# Altium schematic symbol library LED_SYMBOLS.SchLib: 58 symbols (part 1 of 2)
Pins are listed as number, name and electrical type; pins without a type are passive.

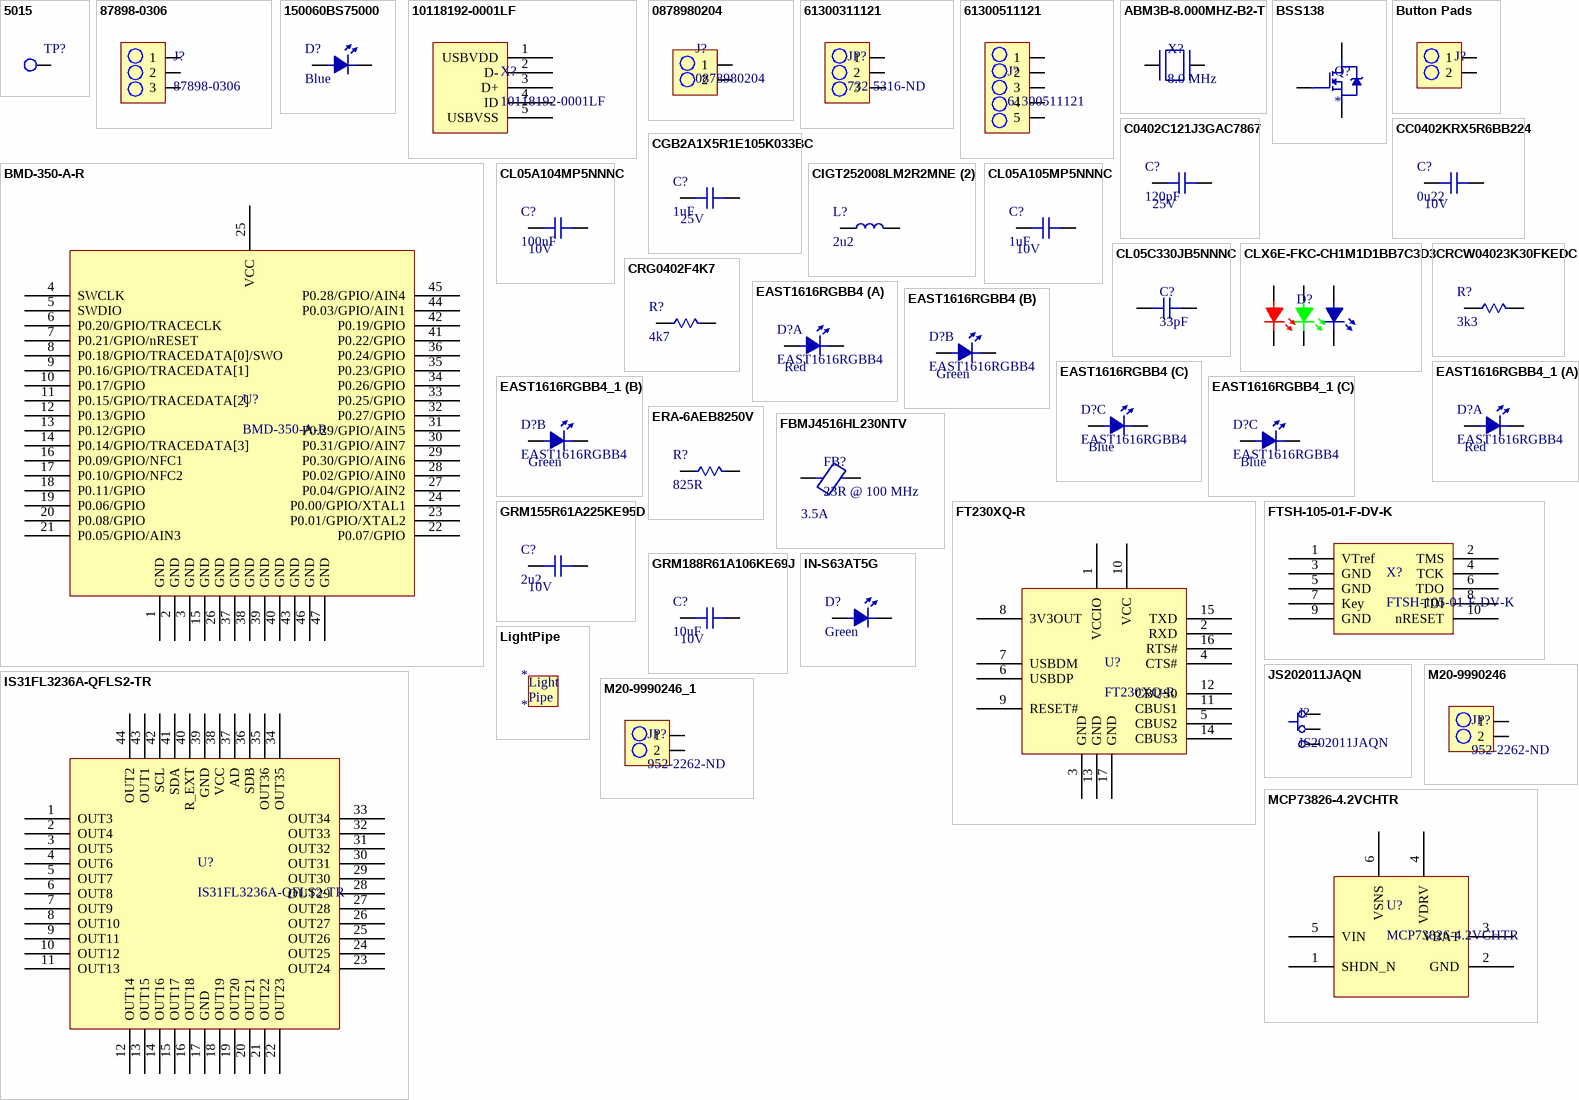
[diagram p0: symbols 5015 to MCP73826-4.2VCHTR]

## 5015
designator TP?  (value not drawn)
TEST POINT, PCB, SMT; Manufacturer: Keystone Electronics; Number of Ports: 1; Supplier 1: Digi-Key; Manufacturer Part Number: 5015; Stock 1: 1937775; Pricing 1: 1=0.44, 10=0.421, 25=0.3604, 50=0.3064, 100=0.2944, 250=0.2644, 500=0.2524 (USD); Mount: Surface Mount; Colour: White; Contact Material: Bronze; Contact Plating: Tin,Silver,Lead; Material: Bronze,Silver; Package Quantity: 1; Packaging: Tape and Reel; Termination: Solder; Orientation: Straight; Length: 2.66mm; Height: 0.06inch; Thickness: 0.01inch; Depth: 1.01mm; REACH SVHC: No SVHC; Lead Free: Lead Free; ComponentLink1URL: https://datasheet.ciiva.com/2917/5015-2917616.pdf; ComponentLink1Description: https://datasheet.ciiva.com/2917/5015-2917616.pdf; ComponentLink2URL: https://datasheet.ciiva.com/2917/5015-2917617.pdf; ComponentLink2Description: https://datasheet.ciiva.com/2917/5015-2917617.pdf; ComponentLink3URL: https://datasheet.ciiva.com/1123/5015-1123862.pdf; ComponentLink3Description: https://datasheet.ciiva.com/1123/5015-1123862.pdf; ComponentLink4URL: https://datasheet.ciiva.com/16883/70182998-16883734.pdf; ComponentLink4Description: https://datasheet.ciiva.com/16883/70182998-16883734.pdf; Supplier Part Number 1: 36-5015CT-ND
footprint TP_HOOK
pins: 1

## 87898-0306
designator J?
CONN_3PIN_SMD HDR 3 POS 2.54mm Solder ST SMD SL™ Frame; Manufacturer: Molex; Description: Conn Unshrouded Header HDR 3 POS 2.54mm Solder ST SMD SL™ Frame; Number of Positions: 3; Gender: Male; Current Rating: 3A; Voltage Rating: 250V; Glow Wire Compliant: Non-compliant; Supplier 1: Digi-Key; Manufacturer Part Number: 87898-0306; Stock 1: 8330; Pricing 1: 1=0.54, 10=0.502, 100=0.3846, 500=0.3344, 1000=0.27588, 5000=0.24244, 10000=0.22572 (USD); Mount: Surface Mount; Contact Plating: Tin; Contact Material: Copper Alloy; Housing Material: Nylon; Material: Copper Alloy; Min Operating Temperature: -55°C; Max Operating Temperature: 105°C; Number of Rows: 1; Packaging: Tray; Package Quantity: 7200; Number of Contacts: 3; Termination: Solder; Orientation: Straight; Number of Circuits: 3; Pitch: 2.54mm; REACH SVHC: No SVHC; Halogen Free: Low Halogen; ELV: Compliant; Flammability Rating: UL94 V-0; ComponentLink1URL: http://www.mouser.com/ds/2/276/0878980306_PCB_HEADERS-176716.pdf?src-supplier=Mouser; ComponentLink1Description: http://www.mouser.com/ds/2/276/0878980306_PCB_HEADERS-176716.pdf?src-supplier=Mouser; Supplier Part Number 1: WM9810-ND
footprint 3PIN_SMD
pins: 1, 2, 3

## 150060BS75000
designator D?, comment Blue
LED BLUE CLEAR 0603 SMD 3.2V 145MCD, 470NM; Manufacturer: Wurth Electronics; Manufacturer Part Number: 150060BS75000; Forward Current: 30mA; Viewing Angle: 140°; Lens Style: Clear,Rectangular; Test Current: 20mA; Supplier 1: Digi-Key; Stock 1: 59667; Pricing 1: 1=0.15, 50=0.141, 100=0.121, 500=0.104 (USD); Mount: Surface Mount; Case/Package: 0603; Color: Blue; Case Code (Metric): 1608; Case Code (Imperial): 0603; Min Operating Temperature: -40°C; Max Operating Temperature: 85°C; Luminous Intensity: 145mcd; Forward Voltage: 3.2V; Wavelength: 470nm; Package Quantity: 4000; Packaging: Cut Tape; Dominant Wavelength: 470nm; Length: 1.6mm; Height: 0.7mm; Width: 0.8mm; REACH SVHC: Unknown; ComponentLink1URL: https://www.distrelec.biz/Web/Downloads/_t/ds/150060BS75000_eng_tds.pdf?mime=application%2Fpdf; ComponentLink1Description: https://www.distrelec.biz/Web/Downloads/_t/ds/150060BS75000_eng_tds.pdf?mime=application%2Fpdf; ComponentLink2URL: https://katalog.we-online.de/led/datasheet/150060BS75000.pdf; ComponentLink2Description: https://katalog.we-online.de/led/datasheet/150060BS75000.pdf; ComponentLink3URL: http://www.farnell.com/datasheets/1911343.pdf; ComponentLink3Description: http://www.farnell.com/datasheets/1911343.pdf; ComponentLink4URL: http://www.produktinfo.conrad.com/datenblaetter/750000-774999/759426-da-01-en-CHIPLED_0603_W_KL_BLAU_150060BS75000.pdf; ComponentLink4Description: http://www.produktinfo.conrad.com/datenblaetter/750000-774999/759426-da-01-en-CHIPLED_0603_W_KL_BLAU_150060BS75000.pdf; Supplier Part Number 1: 732-4966-1-ND
footprint LED_0603
pins: 1, 2

## 10118192-0001LF
designator X?
CONN_USB - micro B USB 2.0 Receptacle Connector 5 Position Surface Mount, Right Angle, Horizontal; Manufacturer: Amphenol FCI; Current Rating: 1.8A; Connector Type: USB,Receptacle; Number of Contacts: 5; Insulation Resistance: 1GR; Number of Ports: 1; Max Voltage Rating (AC): 100V; USB Standard: USB 2.0; Pitch: 0.65mm; Supplier 1: Digi-Key; Manufacturer Part Number: 10118192-0001LF; Stock 1: 197826; Pricing 1: 1=0.46, 10=0.437, 25=0.3744, 50=0.318, 100=0.3056, 250=0.2744, 500=0.262 (USD); Mount: Surface Mount,Horizontal; Contact Material: Copper Alloy; Contact Plating: Nickel,Gold; Number of Terminals: 5; Housing Material: Polymer; Colour: Black; Min Operating Temperature: -55°C; Max Operating Temperature: 85°C; Packaging: Tape and Reel; Package Quantity: 1400; Gender: Receptacle; Termination: Solder; Voltage Rating: 100V; Orientation: Right Angle; Length: 7.86mm; Depth: 5.57mm; Radiation Hardening: No; REACH SVHC: No SVHC; Lead Free: Lead Free; Flammability Rating: UL94 V-0; ComponentLink1URL: https://datasheet.ciiva.com/26853/getdatasheetpartid-418041-26853891.pdf; ComponentLink1Description: https://datasheet.ciiva.com/26853/getdatasheetpartid-418041-26853891.pdf; ComponentLink2URL: https://datasheet.ciiva.com/851/10118192-851112.pdf; ComponentLink2Description: https://datasheet.ciiva.com/851/10118192-851112.pdf; ComponentLink3URL: https://datasheet.ciiva.com/4598/10118192ac-197249-4598796.pdf; ComponentLink3Description: https://datasheet.ciiva.com/4598/10118192ac-197249-4598796.pdf; Supplier Part Number 1: 609-4613-1-ND
footprint USB_MICRO
footprint LQFP-48 (TSQFP, 48-Leads, Body 7.00x7.00mm, Pitch 0.50mm, IPC Medium Density)
pins: 1 USBVDD, 2 D-, 3 D+, 4 ID, 5 USBVSS

## 0878980204
designator J?
CONN_2PIN_SMD HDR 2 POS 2.54mm Solder ST SMD SL™ Tray; Manufacturer: Molex; Description: Conn Unshrouded Header HDR 2 POS 2.54mm Solder ST SMD SL™ Tray; Number of Positions: 2; Gender: Male; Connector Type: Male Pin; Supplier 1: Digi-Key; Manufacturer Part Number: 0878980204; Stock 1: 13417; Pricing 1: 1=0.55, 10=0.517, 100=0.3965, 500=0.3448, 1000=0.28446, 5000=0.24998, 10000=0.23274 (USD); Mount: Surface Mount; Contact Plating: Gold; Contact Material: Copper Alloy; Housing Material: Nylon; Color: Black; Housing Color: Black; Min Operating Temperature: -55°C; Max Operating Temperature: 105°C; Number of Rows: 1; Packaging: Tray; Termination: Solder; Number of Contacts: 2; Orientation: Straight; Package Quantity: 7200; Length: 5.08mm; Pitch: 2.54mm; Contact Mating Length: 0.23inch; Depth: 2.49mm; Radiation Hardening: No; ComponentLink1URL: https://media.digikey.com/pdf/Data%20Sheets/Molex%20PDFs/PackSpec_PK-89990-489_-2%2054mm%20PitchHeader.pdf?src-supplier=Digi-Key; ComponentLink1Description: https://media.digikey.com/pdf/Data%20Sheets/Molex%20PDFs/PackSpec_PK-89990-489_-2%2054mm%20PitchHeader.pdf?src-supplier=Digi-Key; ComponentLink2URL: https://media.digikey.com/pdf/Data%20Sheets/Molex%20PDFs/PackSpec_PK-89990-489_-2%2054mm%20PitchHeader.pdf?src-supplier=Arrow; ComponentLink2Description: https://media.digikey.com/pdf/Data%20Sheets/Molex%20PDFs/PackSpec_PK-89990-489_-2%2054mm%20PitchHeader.pdf?src-supplier=Arrow; Supplier Part Number 1: WM9852-ND
footprint 2PIN_SMD
pins: 1, 2

## 61300311121
designator JP?, comment 732-5316-ND
CONN_HeaderPins3pos WURTH ELEKTRONIK Board-To-Board Connector, Vertical, WR-PHD Series, Through Hole, Header, 3 Contacts, 2.54 mm; Manufacturer: Wurth Electronics; Manufacturer Part Number: 61300311121; Number of Positions: 3; Gender: Male; Connector Type: Male Pin; Pitch: 0.1inch; Supplier 1: Digi-Key; Stock 1: 57026; Pricing 1: 1=0.13, 10=0.106, 25=0.088, 50=0.074, 100=0.067, 1000=0.061 (USD); Mount: Through Hole; Case/Package: 100; Contact Plating: Gold; Contact Material: Copper; Colour: Black; Number of Rows: 1; Packaging: Bulk; Termination: Solder; Number of Contacts: 3; Contact Mating Length: 0.236inch; REACH SVHC: Unknown; Lead Free: Lead Free; ComponentLink1URL: http://www.farnell.com/cad/1737268.pdf; ComponentLink1Description: http://www.farnell.com/cad/1737268.pdf; Supplier Part Number 1: 732-5316-ND
footprint 3PIN_HEADER
pins: 1, 2, 3

## 61300511121
designator J?
CONN_HeaderPins5pos WURTH ELEKTRONIK         61300511121            Board-To-Board Connector, Vertical, WR-PHD Series, Through Hole, Header, 5 Contacts, 2.54 mm; Manufacturer: Wurth Electronics; Number of Positions: 5; Gender: Male; Connector Type: Male Pin; Pitch: 0.1inch; Supplier 1: Digi-Key; Manufacturer Part Number: 61300511121; Stock 1: 20896; Pricing 1: 1=0.25, 10=0.209, 25=0.174, 50=0.145, 100=0.132, 1000=0.12 (USD); Mount: Through Hole; Contact Plating: Gold; Contact Material: Copper; Color: Black; Number of Rows: 1; Packaging: Bulk; Termination: Solder; Number of Contacts: 5; Contact Mating Length: 0.236inch; REACH SVHC: Unknown; Lead Free: Lead Free; Supplier Part Number 1: 732-5318-ND
footprint 5PIN_HEADER
pins: 1, 2, 3, 4, 5

## ABM3B-8.000MHZ-B2-T
designator X?, comment 8.0 MHz
CRYSTAL 8.0000MHZ 18PF SMD 20ppm; Manufacturer: Abracon; Manufacturer Part Number: ABM3B-8.000MHZ-B2-T; Frequency: 8MHz; ESR (Equivalent Series Resistance): 200R; Frequency Stability: 50ppm; Supplier 1: Digi-Key; Stock 1: 185353; Pricing 1: 1=0.51, 10=0.426, 50=0.3836, 100=0.341, 500=0.324 (USD); Mount: Surface Mount; Case/Package: CSMD; Number of Pins: 4; Min Operating Temperature: -20°C; Max Operating Temperature: 70°C; Load Capacitance: 18pF; Packaging: Tape and Reel; Frequency Tolerance: 20ppm; Package Quantity: 1000; Tolerance: 20ppm; Termination: SMD/SMT; Composition: Ceramic; Series Resistance: 200R; Length: 5mm; Height: 0.043inch; Width: 0.126inch; Depth: 3.2mm; REACH SVHC: Unknown; Lead Free: Lead Free; ComponentLink1URL: https://abracon.com/Resonators/abm3b.pdf?src-supplier=Digi-Key; ComponentLink1Description: https://abracon.com/Resonators/abm3b.pdf?src-supplier=Digi-Key; ComponentLink2URL: http://www.abracon.com/Resonators/abm3b.pdf?src-supplier=Avnet; ComponentLink2Description: http://www.abracon.com/Resonators/abm3b.pdf?src-supplier=Avnet; ComponentLink3URL: http://www.abracon.com/Resonators/abm3b.pdf?src-supplier=Future+Electronics; ComponentLink3Description: http://www.abracon.com/Resonators/abm3b.pdf?src-supplier=Future+Electronics; ComponentLink4URL: https://www.verical.com/server-webapp/html/getDatasheet?partID=723822&src-supplier=Verical; ComponentLink4Description: https://www.verical.com/server-webapp/html/getDatasheet?partID=723822&src-supplier=Verical; Supplier Part Number 1: 535-9720-1-ND
footprint XTAL
pins: 1, 3

## BMD-350-A-R
designator U?
IC BT MODULE BMD-350 BASED ON NRF528232 ARM CORTEX M4; Manufacturer: Rigado; Interface: I2C,SPI,UART; Frequency: 2.4GHz; Data Rate: 2Mbps; Sensitivity: -96dBm; Memory Size: 64KB; Current - Receiving: 11.7mA; Current - Transmitting: 16.6mA; Supplier 1: Digi-Key; Manufacturer Part Number: BMD-350-A-R; Stock 1: 19867; Pricing 1: 1=11.27, 10=10.194, 25=9.3896, 100=8.5848, 250=8.0482, 500=7.5117 (USD); Mount: Surface Mount; Case/Package: Module; Min Operating Temperature: -40°C; Max Operating Temperature: 85°C; Packaging: Cut Tape; Supplier Part Number 1: 1604-1012-1-ND
footprint BMD-350
pins: 1 GND, 2 GND, 3 GND, 4 SWCLK, 5 SWDIO, 6 P0.20/GPIO/TRACECLK, 7 P0.21/GPIO/nRESET, 8 P0.18/GPIO/TRACEDATA[0]/SWO, 9 P0.16/GPIO/TRACEDATA[1], 10 P0.17/GPIO, 11 P0.15/GPIO/TRACEDATA[2], 12 P0.13/GPIO, 13 P0.12/GPIO, 14 P0.14/GPIO/TRACEDATA[3], 15 GND, 16 P0.09/GPIO/NFC1, 17 P0.10/GPIO/NFC2, 18 P0.11/GPIO, 19 P0.06/GPIO, 20 P0.08/GPIO, 21 P0.05/GPIO/AIN3, 22 P0.07/GPIO, 23 P0.01/GPIO/XTAL2, 24 P0.00/GPIO/XTAL1, 25 VCC, 26 GND, 27 P0.04/GPIO/AIN2, 28 P0.02/GPIO/AIN0, 29 P0.30/GPIO/AIN6, 30 P0.31/GPIO/AIN7, 31 P0.29/GPIO/AIN5, 32 P0.27/GPIO, 33 P0.25/GPIO, 34 P0.26/GPIO, 35 P0.23/GPIO, 36 P0.24/GPIO, 37 GND, 38 GND, 39 GND, 40 GND, 41 P0.22/GPIO, 42 P0.19/GPIO, 43 GND, 44 P0.03/GPIO/AIN1, 45 P0.28/GPIO/AIN4, 46 GND, 47 GND

## BSS138
designator Q?
MOSFET N-CH 50V 0.22A 3-Pin SOT-23 T/R; Manufacturer: ON Semiconductor / Fairchild; Manufacturer Part Number: BSS138; Rds On Max: 3.5R; Input Capacitance: 27pF; Nominal Vgs: 1.3V; Number of Elements: 1; Max Power Dissipation: 360mW; Rise Time: 9ns; Continuous Drain Current (ID): 220mA; Turn-Off Delay Time: 20ns; Turn-On Delay Time: 2.5ns; Element Configuration: Single; Gate to Source Voltage (Vgs): 20V; On-State Resistance: 6R; Supplier 1: Digi-Key; Stock 1: 814515; Pricing 1: 1=0.26, 10=0.214, 25=0.1792, 100=0.0876, 500=0.07304, 1000=0.05075 (USD); Mount: Surface Mount; Case/Package: SOT-23; Number of Pins: 3; Weight: 0.03g; Contact Plating: Tin,Matte; Min Operating Temperature: -55°C; Max Operating Temperature: 150°C; Packaging: Tape and Reel; Package Quantity: 1; Dual Supply Voltage: 50V; Drain to Source Voltage (Vdss): 50V; Drain to Source Breakdown Voltage: 50V; Fall Time: 9ns; Drain to Source Resistance: 3.5R; Power Dissipation: 360mW; Threshold Voltage: 1.3V; Termination: SMD/SMT; Voltage Rating (DC): 50V; Current Rating: 220mA; Length: 2.92mm; Height: 0.93mm; Width: 1.3mm; Radiation Hardening: No; REACH SVHC: No SVHC; Lead Free: Lead Free; ComponentLink1URL: https://www.fairchildsemi.com/package-drawings/MA/MA03B.pdf?src-supplier=Digi-Key; ComponentLink1Description: https://www.fairchildsemi.com/package-drawings/MA/MA03B.pdf?src-supplier=Digi-Key; ComponentLink2URL: http://www.farnell.com/datasheets/2304519.pdf?src-supplier=Element14; ComponentLink2Description: http://www.farnell.com/datasheets/2304519.pdf?src-supplier=Element14; ComponentLink3URL: http://www.farnell.com/datasheets/2304519.pdf?src-supplier=Newark; ComponentLink3Description: http://www.farnell.com/datasheets/2304519.pdf?src-supplier=Newark; ComponentLink4URL: https://www.fairchildsemi.com/datasheets/BS/BSS138.pdf?src-supplier=Avnet; ComponentLink4Description: https://www.fairchildsemi.com/datasheets/BS/BSS138.pdf?src-supplier=Avnet; ComponentLink5URL: http://www.fairchildsemi.com/ds/BS/BSS138.pdf?src-supplier=Future+Electronics; ComponentLink5Description: http://www.fairchildsemi.com/ds/BS/BSS138.pdf?src-supplier=Future+Electronics; ComponentLink6URL: http://www.jameco.com/Jameco/Products/ProdDS/784896.pdf?src-supplier=Jameco; ComponentLink6Description: http://www.jameco.com/Jameco/Products/ProdDS/784896.pdf?src-supplier=Jameco; ComponentLink7URL: http://www.fairchildsemi.com/ds/BS/BSS138.pdf?src-supplier=Avnet+Europe; ComponentLink7Description: http://www.fairchildsemi.com/ds/BS/BSS138.pdf?src-supplier=Avnet+Europe; Supplier Part Number 1: BSS138CT-ND
footprint SOT23-3_PMOS (SOT23, 3-Leads, Body 2.90x2.90mm, Pitch 0.95mm, IPC Medium Density)
pins: 1, 2, 3

## Button Pads
designator J?  (value not drawn)
footprint 2PIN_HEADER - BUTTON
pins: 1, 2

## C0402C121J3GAC7867
designator C?, comment 120pF  Voltage Rating: 25V
CAP MLCC 120pF 25V 0402; Manufacturer: KEMET; Manufacturer Part Number: C0402C121J3GAC7867; Tolerance: 5%; Supplier 1: Digi-Key; Stock 1: 30252; Pricing 1: 1=0.1, 10=0.039, 100=0.0175, 500=0.0125, 1000=0.0098, 2500=0.0089, 5000=0.0082 (USD); Mount: Surface Mount; Case/Package: 0402; Case Code (Imperial): 0402; Case Code (Metric): 1005; Min Operating Temperature: -55°C; Max Operating Temperature: 125°C; Packaging: Tape and Reel; Capacitance: 120pF; Supplier Part Number 1: 399-14880-1-ND
footprint C0402 (Chip Capacitor, 2-Leads, Body 1.00x0.50mm, IPC Medium Density)
pins: 1, 2

## CC0402KRX5R6BB224
designator C?, comment 0u22  Voltage Rating (DC): 10V
CAP CER 0.22UF 10V X5R 0402; Manufacturer: Yageo; Manufacturer Part Number: CC0402KRX5R6BB224; Dielectric Material: Ceramic; Capacitance: 220nF; Tolerance: 10%; Supplier 1: Digi-Key; Stock 1: 449500; Pricing 1: 1=0.1, 10=0.063, 100=0.0281, 500=0.0201, 1000=0.0158, 2500=0.0143, 5000=0.0132 (USD); Mount: Surface Mount; Case/Package: 0402; Weight: 2.3E-05oz; Case Code (Metric): 1005; Case Code (Imperial): 0402; Min Operating Temperature: -55°C; Max Operating Temperature: 85°C; Package Quantity: 10000; Voltage Rating: 10V; Packaging: Tape and Reel; Dielectric: X5R; Termination: SMD/SMT; Composition: Ceramic; Length: 1mm; Height: 0.5mm; Width: 0.02inch; Thickness: 0.022inch; Depth: 0.5mm; Radiation Hardening: No; REACH SVHC: Unknown; Lead Free: Lead Free; Halogen Free: Halogen Free; ComponentLink1URL: http://www.yageo.com/documents/recent/UPY-GPHC_X5R_4V-to-50V_25.pdf?src-supplier=Digi-Key; ComponentLink1Description: http://www.yageo.com/documents/recent/UPY-GPHC_X5R_4V-to-50V_25.pdf?src-supplier=Digi-Key; ComponentLink2URL: http://www.farnell.com/datasheets/1525783.pdf?src-supplier=Element14; ComponentLink2Description: http://www.farnell.com/datasheets/1525783.pdf?src-supplier=Element14; ComponentLink3URL: http://www.farnell.com/datasheets/1359354.pdf?src-supplier=Element14; ComponentLink3Description: http://www.farnell.com/datasheets/1359354.pdf?src-supplier=Element14; ComponentLink4URL: http://www.yageo.com/documents/recent/UPY-GPHC_X5R_4V-to-50V_12.pdf?src-supplier=Avnet+Europe; ComponentLink4Description: http://www.yageo.com/documents/recent/UPY-GPHC_X5R_4V-to-50V_12.pdf?src-supplier=Avnet+Europe; Supplier Part Number 1: 311-1421-1-ND
footprint C0402 (Chip Capacitor, 2-Leads, Body 1.00x0.50mm, IPC Medium Density)
pins: 1, 2

## CGB2A1X5R1E105K033BC
designator C?, comment 1uF  Voltage Rating: 25V
CAP CER 1UF 25V X5R 0402; Manufacturer: TDK; Manufacturer Part Number: CGB2A1X5R1E105K033BC; Tolerance: 10%; Supplier 1: Digi-Key; Stock 1: 2098521; Pricing 1: 1=0.24, 10=0.166, 100=0.0839, 500=0.0574, 1000=0.0508, 2500=0.0486, 5000=0.0442 (USD); Mount: Surface Mount; Case/Package: 0402; Case Code (Metric): 1005; Case Code (Imperial): 0402; Min Operating Temperature: -55°C; Max Operating Temperature: 85°C; Package Quantity: 1; Packaging: Cut Tape; Capacitance: 1uF; Dielectric: X5R; Voltage Rating (DC): 25V; Length: 0.039inch; Width: 0.02inch; Thickness: 0.013inch; REACH SVHC: No SVHC; Lead Free: Lead Free; Supplier Part Number 1: 445-13185-1-ND
footprint C0402 (Chip Capacitor, 2-Leads, Body 1.00x0.50mm, IPC Medium Density)
pins: 1, 2

## CIGT252008LM2R2MNE (2)
designator L?, comment 2u2
IND 2.2uH 2.1A Saturation Current; Manufacturer: Samsung; Manufacturer Part Number: CIGT252008LM2R2MNE; Core Material: Metal,Composite; Tolerance: 20%; Current Rating: 2A; Shielding: Unshielded; DC Resistance (DCR): 97mR; Test Frequency: 1MHz; Supplier 1: Digi-Key; Stock 1: 8715; Pricing 1: 1=0.22, 10=0.197, 100=0.1314, 500=0.1095, 1000=0.092 (USD); Mount: Surface Mount; Case/Package: 1008; Case Code (Imperial): 1008; Case Code (Metric): 2520; Min Operating Temperature: -40°C; Max Operating Temperature: 125°C; Composition: Thin Film; Packaging: Cut Tape; Inductance: 2.2uH; Saturation Current: 2.1A; Supplier Part Number 1: 1276-6925-1-ND
footprint INDUCTOR (Chip Inductor, 2-Leads, Body 2.50x2.00mm, IPC Medium Density)
pins: 1, 2

## CL05A104MP5NNNC
designator C?, comment 100nF  Voltage Rating: 10V
CAP MLCC 0.1uF 10V X5R 0402 20% SMD 0402 85C Paper T/R; Manufacturer: Samsung; Manufacturer Part Number: CL05A104MP5NNNC; Supplier 1: Digi-Key; Stock 1: 100000; Pricing 1: 1=0.1, 10=0.024, 100=0.0106, 500=0.0076, 1000=0.006, 2500=0.0054, 5000=0.005 (USD); Mount: Surface Mount; Case/Package: 0402; Case Code (Metric): 1005; Case Code (Imperial): 0402; Min Operating Temperature: -55°C; Max Operating Temperature: 85°C; Packaging: Tape and Reel; Capacitance: 100nF; Tolerance: 20%; Dielectric: X5R; Voltage Rating (DC): 10V; Length: 1mm; Height: 0.5mm; Width: 0.02inch; Thickness: 0.022inch; Depth: 0.5mm; Radiation Hardening: No; Lead Free: Lead Free; ComponentLink1URL: https://media.digikey.com/pdf/Data%20Sheets/Samsung%20PDFs/CL_Series_MLCC_ds.pdf; ComponentLink1Description: https://media.digikey.com/pdf/Data%20Sheets/Samsung%20PDFs/CL_Series_MLCC_ds.pdf; Supplier Part Number 1: 1276-1443-1-ND
footprint C0402 (Chip Capacitor, 2-Leads, Body 1.00x0.50mm, IPC Medium Density)
pins: 1, 2

## CL05A105MP5NNNC
designator C?, comment 1uF  Voltage Rating: 10V
CAP MLCC 1uF 10V 0402; Manufacturer: Samsung; Manufacturer Part Number: CL05A105MP5NNNC; Tolerance: 20%; Dielectric: X5R; Supplier 1: Digi-Key; Stock 1: 3892098; Pricing 1: 1=0.1, 10=0.038, 100=0.0169, 500=0.0121, 1000=0.0095, 2500=0.0086, 5000=0.008 (USD); Mount: Surface Mount; Case/Package: 0402; Case Code (Metric): 1005; Case Code (Imperial): 0402; Min Operating Temperature: -55°C; Max Operating Temperature: 85°C; Package Quantity: 1; Packaging: Tape and Reel; Capacitance: 1uF; Voltage Rating (DC): 10V; Length: 1mm; Height: 0.5mm; Width: 0.02inch; Thickness: 0.022inch; Depth: 0.5mm; Radiation Hardening: No; Lead Free: Lead Free; ComponentLink1URL: http://www.samsungsem.com/kr/support/product-search/mlcc/CL05A105MP5NNNC.jsp?src-supplier=Digi-Key; ComponentLink1Description: http://www.samsungsem.com/kr/support/product-search/mlcc/CL05A105MP5NNNC.jsp?src-supplier=Digi-Key; Supplier Part Number 1: 1276-1448-1-ND
footprint C0402 (Chip Capacitor, 2-Leads, Body 1.00x0.50mm, IPC Medium Density)
pins: 1, 2

## CL05C330JB5NNNC
designator C?, comment 33pF
Cap Ceramic 33pF 50V C0G 5% SMD 0402 125C T/R; Manufacturer: Samsung; Manufacturer Part Number: CL05C330JB5NNNC; Temperature Coefficient: 300ppm/°C; Supplier 1: Digi-Key; Stock 1: 11666415; Pricing 1: 1=0.1, 10=0.023, 100=0.0104, 500=0.0074, 1000=0.0058, 2500=0.0053, 5000=0.0049 (USD); Mount: Surface Mount; Case/Package: 0402; Case Code (Metric): 1005; Case Code (Imperial): 0402; Material: Ceramic; Contact Plating: Tin; Min Operating Temperature: -55°C; Max Operating Temperature: 125°C; Package Quantity: 1; Packaging: Tape and Reel; Capacitance: 33pF; Tolerance: 5%; Voltage Rating: 50V; Dielectric: C0G; Voltage: 50V; Voltage Rating (DC): 50V; Length: 1mm; Height: 0.5mm; Width: 0.02inch; Thickness: 0.022inch; Depth: 0.5mm; Radiation Hardening: No; Lead Free: Lead Free; ComponentLink1URL: https://www.verical.com/server-webapp/html/getDatasheet?partID=355282&src-supplier=Verical; ComponentLink1Description: https://www.verical.com/server-webapp/html/getDatasheet?partID=355282&src-supplier=Verical; ComponentLink2URL: https://produktinfo.conrad.com/datenblaetter/450000-474999/458594-da-01-en-VS_KONDENSATOR_0402.pdf?src-supplier=Conrad; ComponentLink2Description: https://produktinfo.conrad.com/datenblaetter/450000-474999/458594-da-01-en-VS_KONDENSATOR_0402.pdf?src-supplier=Conrad; Supplier Part Number 1: 1276-1272-1-ND
footprint C0402 (Chip Capacitor, 2-Leads, Body 1.00x0.50mm, IPC Medium Density)
pins: 1, 2

## CLX6E-FKC-CH1M1D1BB7C3D3
designator D?  (value not drawn)
LED RGB CLEAR 4SMD; Manufacturer: Cree; Manufacturer Part Number: CLX6E-FKC-CH1M1D1BB7C3D3; Color: Blue,Green,Red; Lens Color: Colorless; Luminous Intensity: 84mcd; Test Current: 10mA; Dominant Wavelength: 470nm; Forward Voltage: 3V; Lens Style: Flat,Square; Supplier 1: Digi-Key; Stock 1: 40797; Pricing 1: 1=0.19, 10=0.178, 100=0.165, 1000=0.14761 (USD); Mount: Surface Mount; Case/Package: SMD/SMT; Packaging: Tape and Reel; Lens Transparency: Clear; Length: 2mm; Height: 1mm; Width: 2mm; Supplier 2: Digi-Key; Stock 2: 1298; Pricing 2: 1=0.3, 10=0.282, 100=0.2606, 1000=0.23308 (USD); Supplier Part Number 1: CLX6E-FKC-CH1M1D1BB7C3D3CT-ND; ComponentLink1Description: Datasheet; ComponentLink1URL: https://www.cree.com/led-components/media/documents/ds-CLX6E-FKC-1359.pdf; ComponentLink2Description: Footprint (Page 12); ComponentLink2URL: https://www.cree.com/led-components/media/documents/sh-HB.pdf
footprint LED_CLX6E
pins: 1, 2, 3, 4, 5, 6

## CRCW04023K30FKEDC
designator R?, comment 3k3
RES SMD 3.3K OHM 1% 1/16W 0402; Manufacturer: Vishay; Manufacturer Part Number: CRCW04023K30FKEDC; Resistance: 3.3kR; Max Power Dissipation: 63mW; Temperature Coefficient: 100ppm/°C; Supplier 1: Digi-Key; Stock 1: 19004; Pricing 1: 1=0.1, 10=0.032, 100=0.013, 1000=0.00583, 2500=0.00506, 5000=0.00418 (USD); Case/Package: 0402; Case Code (Imperial): 0402; Case Code (Metric): 1005; Min Operating Temperature: -55°C; Max Operating Temperature: 155°C; Composition: Thick Film; Packaging: Cut Tape; Tolerance: 1%; Number of Terminations: 2; ComponentLink1URL: http://www.vishay.com/docs/28773/crcwce3.pdf?src-supplier=Digi-Key; ComponentLink1Description: http://www.vishay.com/docs/28773/crcwce3.pdf?src-supplier=Digi-Key; Supplier Part Number 1: 541-4080-6-ND
footprint R0402 (Chip Resistor, 2-Leads, Body 1.00x0.50mm, IPC Medium Density)
pins: 1, 2

## CRG0402F4K7
designator R?, comment 4k7
RES SMD 4.7K 0402 4.7K Ohm 1% 1/16W ±100ppm/°C Molded SMD SMD; Manufacturer: TE Connectivity; Manufacturer Part Number: CRG0402F4K7; Supplier 1: Newark; Stock 1: 0; Pricing 1: 10000=0.006, 20000=0.003, 200000=0.003, 400000=0.003, 1000000=0.003, 1=0.004, 20000=0.002, 200000=0.002, 400000=0.002, 1000000=0.002 (CAD); Supplier Part Number 1: 30AC5442
footprint R0402 (Chip Resistor, 2-Leads, Body 1.00x0.50mm, IPC Medium Density)
pins: 1, 2

## EAST1616RGBB4
designator D?
LED TRICOLOR RED GREEN BLUE; Manufacturer: Everlight; Supplier 1: Digi-Key; Manufacturer Part Number: EAST1616RGBB4; Stock 1: 0; Supplier Part Number 1: 1080-1552-2-ND
footprint LED_TRICOLOR
part A pins: 1, 4
part B pins: 2, 4
part C pins: 3, 4
part A text: Red
part B text: Green
part C text: Blue

## EAST1616RGBB4_1
designator D?, comment EAST1616RGBB4
LED TRICOLOR RED GREEN BLUE; Manufacturer: Everlight; Supplier 1: Digi-Key; Manufacturer Part Number: EAST1616RGBB4; Stock 1: 0; Supplier Part Number 1: 1080-1552-2-ND
footprint LED_TRICOLOR
part A pins: 1, 4
part B pins: 2, 4
part C pins: 3, 4
part A text: Red
part B text: Green
part C text: Blue

## ERA-6AEB8250V
designator R?, comment 825R
RES SMD 825 OHM 0.1% 1/8W 0805; Manufacturer: Panasonic; Manufacturer Part Number: ERA-6AEB8250V; Power Rating: 125mW; Voltage Rating: 100V; Temperature Coefficient: 25ppm/°C; Supplier 1: Digi-Key; Stock 1: 26292; Pricing 1: 1=0.36, 10=0.302, 100=0.1182, 1000=0.0495, 2500=0.0454 (USD); Mount: Surface Mount; Case/Package: 0805; Number of Pins: 2; Case Code (Metric): 2012; Case Code (Imperial): 0805; Contact Plating: Tin; Min Operating Temperature: -55°C; Max Operating Temperature: 155°C; Tolerance: 0.1%; Resistance: 825R; Composition: Thin Film,Metal Film; Packaging: Tape and Reel; Package Quantity: 1; Number of Terminations: 2; Termination: SMD/SMT; Max Power Dissipation: 125mW; Voltage Rating (DC): 100V; Features: Automotive AEC-Q200; Length: 2mm; Height: 0.5mm; Width: 1.25mm; Depth: 1.25mm; Radiation Hardening: No; REACH SVHC: No SVHC; Lead Free: Lead Free; ComponentLink1URL: http://www.farnell.com/datasheets/485442.pdf?src-supplier=Element14; ComponentLink1Description: http://www.farnell.com/datasheets/485442.pdf?src-supplier=Element14; ComponentLink2URL: http://industrial.panasonic.com/www-data/pdf/AOA0000/AOA0000CE26.pdf?src-supplier=Avnet; ComponentLink2Description: http://industrial.panasonic.com/www-data/pdf/AOA0000/AOA0000CE26.pdf?src-supplier=Avnet; ComponentLink3URL: http://industrial.panasonic.com/www-data/pdf/AOA0000/AOA0000CE26.pdf?src-supplier=Avnet+Europe; ComponentLink3Description: http://industrial.panasonic.com/www-data/pdf/AOA0000/AOA0000CE26.pdf?src-supplier=Avnet+Europe; ComponentLink4URL: http://uk.rs-online.com/webdocs/0eb1/0900766b80eb1d8c.pdf?src-supplier=RSComponents; ComponentLink4Description: http://uk.rs-online.com/webdocs/0eb1/0900766b80eb1d8c.pdf?src-supplier=RSComponents; ComponentLink5URL: https://produktinfo.conrad.com/datenblaetter/450000-474999/458654-da-01-en-WIDERSTAND_0805_ERA.pdf?src-supplier=Conrad; ComponentLink5Description: https://produktinfo.conrad.com/datenblaetter/450000-474999/458654-da-01-en-WIDERSTAND_0805_ERA.pdf?src-supplier=Conrad; Supplier Part Number 1: P825DACT-ND
footprint R0805-3D (Chip Resistor, 2-Leads, Body 2.00x1.25mm, IPC Medium Density)
pins: 1, 2

## FBMJ4516HL230NTV
designator FB?, comment 23R @ 100 MHz  Max Current Rating: 3.5A
FERRITE BEAD Ind Chip Bead Multi-Layer 23Ohm 30% 100MHz Ferrite 3.5A 1806 T/R; Manufacturer: Taiyo Yuden; Manufacturer Part Number: FBMJ4516HL230NTV; Resistance: 180623R; Number of Lines: 1; DC Resistance (DCR): 14mR; Supplier 1: Digi-Key; Stock 1: 1819; Pricing 1: 1=0.26, 10=0.202, 25=0.1676, 50=0.1444, 100=0.1299, 250=0.1097, 500=0.0982, 1000=0.0837 (USD); Mount: Surface Mount; Case/Package: 1806; Core Material: Ferrite; Case Code (Metric): 4516; Case Code (Imperial): 1806; Min Operating Temperature: -40°C; Max Operating Temperature: 125°C; Tolerance: 30%; Impedance: 23R; Package Quantity: 2000; Packaging: Tape and Reel; Max DC Current: 3.5A; Termination: SMD/SMT; Test Frequency: 100MHz; Length: 0.177inch; Height: 1.1mm; Width: 1.6mm; Depth: 1.6mm; ComponentLink1URL: http://www.mouser.com/ds/2/396/chipbeads01_e-559265.pdf; ComponentLink1Description: http://www.mouser.com/ds/2/396/chipbeads01_e-559265.pdf; ComponentLink2URL: http://ds.yuden.co.jp/TYCOMPAS/ut/detail.do?productNo=FBMJ4516HL230NTV&fileName=FBMJ4516HL230NTV_SS&mode=specSheetDownload; ComponentLink2Description: http://ds.yuden.co.jp/TYCOMPAS/ut/detail.do?productNo=FBMJ4516HL230NTV&fileName=FBMJ4516HL230NTV_SS&mode=specSheetDownload; ComponentLink3URL: https://www.yuden.co.jp/ut/product/category/emisuppression/FBMJ4516HL230NTV_SS.pdf; ComponentLink3Description: https://www.yuden.co.jp/ut/product/category/emisuppression/FBMJ4516HL230NTV_SS.pdf; Supplier Part Number 1: 587-3857-1-ND
footprint FB_1806 (Chip Inductor, 2-Leads, Body 4.50x1.60mm, IPC Medium Density)
pins: 1, 2

## FT230XQ-R
designator U?
IC USB SERIAL BASIC UART 16QFN; Manufacturer: FTDI; Operating Supply Voltage: 5V; Data Rate: 12Mbps; Number of Channels: 1; Max Supply Voltage: 5.5V; Min Supply Voltage: 2.97V; Interface: USB,UART; Operating Supply Current: 8mA; Supplier 1: Digi-Key; Manufacturer Part Number: FT230XQ-R; Stock 1: 185744; Pricing 1: 1=2.04, 25=1.97, 100=1.9, 250=1.71, 500=1.54, 1000=1.4806 (USD); Mount: Surface Mount; Case/Package: QFN; Number of Pins: 16; Weight: 0.002014oz; Min Operating Temperature: -40°C; Max Operating Temperature: 85°C; Packaging: Tape and Reel; Package Quantity: 5000; Length: 4mm; Height: 0.75mm; Width: 4mm; Lead Free: Lead Free; ComponentLink1URL: https://datasheet.ciiva.com/16213/ds-ft230x-16213755.pdf; ComponentLink1Description: https://datasheet.ciiva.com/16213/ds-ft230x-16213755.pdf; ComponentLink2URL: https://datasheet.ciiva.com/48909/70403914-48909084.pdf; ComponentLink2Description: https://datasheet.ciiva.com/48909/70403914-48909084.pdf; ComponentLink3URL: https://datasheet.ciiva.com/1787/ft-x-series-1787309.pdf; ComponentLink3Description: https://datasheet.ciiva.com/1787/ft-x-series-1787309.pdf; ComponentLink4URL: https://datasheet.ciiva.com/1787/ft-x-series-1787310.pdf; ComponentLink4Description: https://datasheet.ciiva.com/1787/ft-x-series-1787310.pdf; ComponentLink5URL: https://datasheet.ciiva.com/1787/ft-x-series-1787311.pdf; ComponentLink5Description: https://datasheet.ciiva.com/1787/ft-x-series-1787311.pdf; ComponentLink6URL: https://datasheet.ciiva.com/30478/0900766b811020cb-30478159.pdf; ComponentLink6Description: https://datasheet.ciiva.com/30478/0900766b811020cb-30478159.pdf; Supplier Part Number 1: 768-1130-1-ND
footprint QFN16-EP (QFN, 16-Leads, Body 4.00x4.00mm, Pitch 0.65mm, Thermal Pad 2.08x2.08mm, IPC Medium Density)
pins: 1 VCCIO, 2 RXD, 3 GND, 4 CTS#, 5 CBUS2, 6 USBDP, 7 USBDM, 8 3V3OUT, 9 RESET#, 10 VCC, 11 CBUS1, 12 CBUS0, 13 GND, 14 CBUS3, 15 TXD, 16 RTS#, 17 GND

## FTSH-105-01-F-DV-K
designator X?
CONN_JTAG_10pin .050 Connector Dual Header 10 Position Surface Mount; Manufacturer: Samtec; Max Current Rating: 1.75A; Number of Positions: 10; Connector Type: Male Pin; Pitch: 1.27mm; Row Spacing: 0.05inch; Supplier 1: Digi-Key; Manufacturer Part Number: FTSH-105-01-F-DV-K; Stock 1: 18199; Pricing 1: 1=2.9, 10=2.784, 100=2.32, 500=1.972, 1000=1.682, 5000=1.508 (USD); Mount: Surface Mount; Contact Material: Bronze,Copper; Contact Plating: Nickel,Gold; Colour: Black; Housing Colour: Black; Housing Material: Polymer; Min Operating Temperature: -55°C; Max Operating Temperature: 125°C; Number of Rows: 2; Packaging: Rail/Tube; Package Quantity: 1; Termination: Solder; Number of Contacts: 10; Orientation: Straight; Length: 15.2mm; Height: 3.3mm; Contact Mating Length: 0.12inch; Depth: 3.43mm; Radiation Hardening: No; Lead Free: Lead Free; ComponentLink1URL: https://datasheet.ciiva.com/19461/2046846-19461026.pdf; ComponentLink1Description: https://datasheet.ciiva.com/19461/2046846-19461026.pdf; ComponentLink2URL: https://datasheet.ciiva.com/738/ftsh-1xx-xx-xxx-dv-xxx-mkt-738998.pdf; ComponentLink2Description: https://datasheet.ciiva.com/738/ftsh-1xx-xx-xxx-dv-xxx-mkt-738998.pdf; ComponentLink3URL: https://datasheet.ciiva.com/10245/ftsh-mt-10245273.pdf; ComponentLink3Description: https://datasheet.ciiva.com/10245/ftsh-mt-10245273.pdf; ComponentLink4URL: https://datasheet.ciiva.com/16657/ftsh-mt-16657371.pdf; ComponentLink4Description: https://datasheet.ciiva.com/16657/ftsh-mt-16657371.pdf; ComponentLink5URL: https://datasheet.ciiva.com/15195/getdatasheetpartid-133463-15195260.pdf; ComponentLink5Description: https://datasheet.ciiva.com/15195/getdatasheetpartid-133463-15195260.pdf; Supplier Part Number 1: SAM8796-ND
footprint JTAG_50mil_10pin
pins: 1 VTref, 2 TMS, 3 GND, 4 TCK, 5 GND, 6 TDO, 7 Key, 8 TDI, 9 GND, 10 nRESET

## GRM155R61A225KE95D
designator C?, comment 2u2  Voltage Rating (DC): 10V
Cap Ceramic 2.2uF 10V X5R 10% SMD 0402 85C Paper T/R; Manufacturer: Murata; Manufacturer Part Number: GRM155R61A225KE95D; Supplier 1: Digi-Key; Stock 1: 3148510; Pricing 1: 1=0.13, 10=0.09, 100=0.0425, 500=0.0298, 1000=0.0247, 2500=0.023, 5000=0.021 (USD); Mount: Surface Mount; Case/Package: 0402; Weight: 0.000212oz; Case Code (Metric): 1005; Case Code (Imperial): 0402; Material: Ceramic; Min Operating Temperature: -55°C; Max Operating Temperature: 85°C; Capacitance: 2.2uF; Tolerance: 10%; Voltage Rating: 10V; Packaging: Tape and Reel; Dielectric: X5R; Termination: SMD/SMT; Package Quantity: 10000; Length: 1mm; Height: 0.5mm; Width: 0.5mm; Thickness: 0.022inch; Depth: 0.5mm; REACH SVHC: No SVHC; Lead Free: Lead Free; Supplier Part Number 1: 490-10451-1-ND
footprint C0402 (Chip Capacitor, 2-Leads, Body 1.00x0.50mm, IPC Medium Density)
pins: 1, 2

## GRM188R61A106KE69J
designator C?, comment 10uF  Voltage Rating (DC): 10V
CAP MLCC 10uF 10V 0603; Manufacturer: Murata; Manufacturer Part Number: GRM188R61A106KE69J; Dielectric: X5R; Tolerance: 10%; Supplier 1: Digi-Key; Stock 1: 202850; Pricing 1: 1=0.21, 10=0.141, 100=0.0713, 500=0.0488, 1000=0.0431, 2500=0.0413, 5000=0.0375 (USD); Capacitance: 10uF; Length: 1.6mm; Width: 800um; Thickness: 800um; Supplier Part Number 1: 490-14372-1-ND
footprint C0603 (Chip Capacitor, 2-Leads, Body 1.60x0.80mm, IPC Medium Density)
pins: 1, 2

## IN-S63AT5G
designator D?, comment Green
LED GREEN CLEAR 0603 SMD; Manufacturer: Inolux; Manufacturer Part Number: IN-S63AT5G; Lens Style: Flat; Luminous Intensity: 350mcd; Forward Voltage: 3V; Test Current: 5mA; Viewing Angle: 120°; Dominant Wavelength: 525nm; Lens Size: 0.8mm; Supplier 1: Digi-Key; Stock 1: 2843; Pricing 1: 1=0.55, 10=0.393, 25=0.3012, 100=0.1966, 250=0.1442, 500=0.1223, 1000=0.1005 (USD); Mount: Surface Mount; Case/Package: 0603; Color: Green; Lens Color: Clear; Case Code (Imperial): 0603; Case Code (Metric): 1608; Packaging: Tape and Reel; Lens Transparency: Clear; Length: 1.6mm; Height: 0.39mm; Width: 0.8mm; Supplier Part Number 1: 1830-1062-1-ND
footprint LED_0603
pins: 1, 2

## IS31FL3236A-QFLS2-TR
designator U?
IC LED DRVR LINEAR 36CH 44QFN; Manufacturer: ISSI; Dimming: I²C; Number of Outputs: 36; Max Supply Voltage: 5.5V; Output Current per Channel: 38mA; Supplier 1: Digi-Key; Manufacturer Part Number: IS31FL3236A-QFLS2-TR; Stock 1: 6257; Pricing 1: 1=1.65, 10=1.484, 25=1.4, 100=1.12, 250=0.98, 500=0.952, 1000=0.756 (USD); Mount: Surface Mount; Case/Package: QFN; Number of Pins: 44; Min Operating Temperature: -40°C; Max Operating Temperature: 85°C; Packaging: Tape and Reel; ComponentLink1URL: http://www.issi.com/WW/pdf/31FL3236A.pdf?src-supplier=Digi-Key; ComponentLink1Description: http://www.issi.com/WW/pdf/31FL3236A.pdf?src-supplier=Digi-Key; Supplier Part Number 1: 706-1589-1-ND
footprint QFN-44 (QFN, 44-Leads, Body 5.00x5.00mm, Pitch 0.40mm, Thermal Pad 2.43x2.43mm, IPC Medium Density)
pins: 1 OUT3, 2 OUT4, 3 OUT5, 4 OUT6, 5 OUT7, 6 OUT8, 7 OUT9, 8 OUT10, 9 OUT11, 10 OUT12, 11 OUT13, 12 OUT14, 13 OUT15, 14 OUT16, 15 OUT17, 16 OUT18, 17 GND, 18 OUT19, 19 OUT20, 20 OUT21, 21 OUT22, 22 OUT23, 23 OUT24, 24 OUT25, 25 OUT26, 26 OUT27, 27 OUT28, 28 OUT29, 29 OUT30, 30 OUT31, 31 OUT32, 32 OUT33, 33 OUT34, 34 OUT35, 35 OUT36, 36 SDB, 37 AD, 38 VCC, 39 GND, 40 R_EXT, 41 SDA, 42 SCL, 43 OUT1, 44 OUT2

## JS202011JAQN
designator J?
SWITCH SLIDE DPDT 300MA 6V; Manufacturer: ITT C&K; Actuator Material: Nylon,Polyamide; Switch Function: On-On; Actuator Type: Standard; Switch Travel: 2mm; Electrical Life: 5000Cycles; Supplier 1: Digi-Key; Manufacturer Part Number: JS202011JAQN; Stock 1: 3321; Pricing 1: 1=0.51, 10=0.488, 25=0.4776, 50=0.4268, 100=0.4066, 250=0.3964, 500=0.3354 (USD); Mount: Surface Mount; Contact Material: Copper Alloy; Contact Plating: Silver; Min Operating Temperature: -40°C; Max Operating Temperature: 85°C; Throw Configuration: DPDT; Packaging: Cut Tape; Current Rating: 300mA; Voltage Rating (DC): 6V; Actuator Length: 2mm; Supplier Part Number 1: CKN10722CT-ND
footprint SWITCH
pins: 1, 2, 3

## LightPipe
designator *
footprint LightPipe
text: Light; Pipe

## M20-9990246
designator JP?, comment 952-2262-ND
CONN_HeaderPins2pos Headers & Wire Housings 02 SIL VERTICAL PIN HEADER TIN; Manufacturer: Harwin; Manufacturer Part Number: M20-9990246; Contact Resistance: 30mR; Max Current Rating: 3A; Number of Positions: 2; Gender: Male; Connector Type: Male Pin; Insulation Resistance: 10GR; Voltage Rating (AC): 750V; Pitch: 2.54mm; Supplier 1: Digi-Key; Stock 1: 53577; Pricing 1: 1=0.11, 10=0.099, 100=0.0609, 500=0.0504, 1000=0.0441, 5000=0.0378, 10000=0.0368 (USD); Case/Package: SIL; Colour: Black; Housing Colour: Black; Housing Material: Nylon; Contact Plating: Tin; Contact Material: Bronze,Brass; Min Operating Temperature: -40°C; Max Operating Temperature: 105°C; Package Quantity: 1000; Packaging: Bulk; Termination: Solder; Number of Rows: 1; Number of Contacts: 2; Orientation: Straight; Current Rating: 3A; Length: 5.08mm; Depth: 2.54mm; Contact Mating Length: 0.24inch; Radiation Hardening: No; REACH SVHC: No SVHC; ComponentLink1URL: https://datasheet.ciiva.com/8046/315376-8046930.pdf; ComponentLink1Description: https://datasheet.ciiva.com/8046/315376-8046930.pdf; ComponentLink2URL: https://datasheet.ciiva.com/6833/m20-999-6833368.pdf; ComponentLink2Description: https://datasheet.ciiva.com/6833/m20-999-6833368.pdf; ComponentLink3URL: https://datasheet.ciiva.com/11745/0900766b81034e61-11745755.pdf; ComponentLink3Description: https://datasheet.ciiva.com/11745/0900766b81034e61-11745755.pdf; ComponentLink4URL: https://datasheet.ciiva.com/22660/1830818-22660571.pdf; ComponentLink4Description: https://datasheet.ciiva.com/22660/1830818-22660571.pdf; ComponentLink5URL: https://datasheet.ciiva.com/26852/getdatasheetpartid-384170-26852203.pdf; ComponentLink5Description: https://datasheet.ciiva.com/26852/getdatasheetpartid-384170-26852203.pdf; Supplier Part Number 1: 952-2262-ND
footprint 2PIN_HEADER
pins: 1, 2

## M20-9990246_1
designator JP?, comment 952-2262-ND
CONN_RightAngleHeaderPins2pos Headers & Wire Housings 02 SIL VERTICAL PIN HEADER TIN; Manufacturer: Harwin; Manufacturer Part Number: M20-9990246; Contact Resistance: 30mR; Max Current Rating: 3A; Number of Positions: 2; Gender: Male; Connector Type: Male Pin; Insulation Resistance: 10GR; Voltage Rating (AC): 750V; Pitch: 2.54mm; Supplier 1: Digi-Key; Stock 1: 53577; Pricing 1: 1=0.11, 10=0.099, 100=0.0609, 500=0.0504, 1000=0.0441, 5000=0.0378, 10000=0.0368 (USD); Case/Package: SIL; Colour: Black; Housing Colour: Black; Housing Material: Nylon; Contact Plating: Tin; Contact Material: Bronze,Brass; Min Operating Temperature: -40°C; Max Operating Temperature: 105°C; Package Quantity: 1000; Packaging: Bulk; Termination: Solder; Number of Rows: 1; Number of Contacts: 2; Orientation: Straight; Current Rating: 3A; Length: 5.08mm; Depth: 2.54mm; Contact Mating Length: 0.24inch; Radiation Hardening: No; REACH SVHC: No SVHC; ComponentLink1URL: https://datasheet.ciiva.com/8046/315376-8046930.pdf; ComponentLink1Description: https://datasheet.ciiva.com/8046/315376-8046930.pdf; ComponentLink2URL: https://datasheet.ciiva.com/6833/m20-999-6833368.pdf; ComponentLink2Description: https://datasheet.ciiva.com/6833/m20-999-6833368.pdf; ComponentLink3URL: https://datasheet.ciiva.com/11745/0900766b81034e61-11745755.pdf; ComponentLink3Description: https://datasheet.ciiva.com/11745/0900766b81034e61-11745755.pdf; ComponentLink4URL: https://datasheet.ciiva.com/22660/1830818-22660571.pdf; ComponentLink4Description: https://datasheet.ciiva.com/22660/1830818-22660571.pdf; ComponentLink5URL: https://datasheet.ciiva.com/26852/getdatasheetpartid-384170-26852203.pdf; ComponentLink5Description: https://datasheet.ciiva.com/26852/getdatasheetpartid-384170-26852203.pdf; Supplier Part Number 1: 952-2262-ND
footprint 2PIN_HEADER_RIGHTANGLE
pins: 1, 2

## MCP73826-4.2VCHTR
designator U?
IC BATT CHARGER LI-ION 4.2V CCCV WITH 43% CURRENT DEPLETION MODE; Manufacturer: Microchip; Min Supply Voltage: 4.5V; Max Supply Voltage: 5.5V; Number of Cells: 1; Output Current: 75mA; Operating Supply Current: 260uA; Max Output Voltage: 4.24V; Min Output Voltage: 4.158V; Nominal Supply Current: 560mA; Supplier 1: Digi-Key; Manufacturer Part Number: MCP73826-4.2VCHTR; Stock 1: 379; Pricing 1: 1=0.93, 25=0.7724, 100=0.7004 (USD); Mount: Surface Mount; Case/Package: SOT-23; Number of Pins: 6; Min Operating Temperature: -20°C; Max Operating Temperature: 85°C; Package Quantity: 1; Packaging: Tape and Reel; Output Voltage: 4.2V; Length: 3mm; Height: 1.3mm; Width: 1.75mm; Radiation Hardening: No; REACH SVHC: No SVHC; Lead Free: Lead Free; ComponentLink1URL: http://www.microchip.com/mymicrochip/filehandler.aspx?ddocname=en026002&src-supplier=Digi-Key; ComponentLink1Description: http://www.microchip.com/mymicrochip/filehandler.aspx?ddocname=en026002&src-supplier=Digi-Key; ComponentLink2URL: http://www.microchip.com/mymicrochip/filehandler.aspx?ddocname=en023833&src-supplier=Digi-Key; ComponentLink2Description: http://www.microchip.com/mymicrochip/filehandler.aspx?ddocname=en023833&src-supplier=Digi-Key; ComponentLink3URL: http://www.farnell.com/datasheets/1789214.pdf?src-supplier=Farnell; ComponentLink3Description: http://www.farnell.com/datasheets/1789214.pdf?src-supplier=Farnell; ComponentLink4URL: http://www.farnell.com/datasheets/1789214.pdf?src-supplier=Element14; ComponentLink4Description: http://www.farnell.com/datasheets/1789214.pdf?src-supplier=Element14; ComponentLink5URL: http://www.mouser.com/ds/2/268/21705a-63878.pdf?src-supplier=Mouser; ComponentLink5Description: http://www.mouser.com/ds/2/268/21705a-63878.pdf?src-supplier=Mouser; ComponentLink6URL: http://ww1.microchip.com/downloads/jp/DeviceDoc/21705a.pdf?src-supplier=Avnet+Europe; ComponentLink6Description: http://ww1.microchip.com/downloads/jp/DeviceDoc/21705a.pdf?src-supplier=Avnet+Europe; ComponentLink7URL: http://uk.rs-online.com/webdocs/0806/0900766b808065c8.pdf?src-supplier=RSComponents; ComponentLink7Description: http://uk.rs-online.com/webdocs/0806/0900766b808065c8.pdf?src-supplier=RSComponents; Supplier Part Number 1: MCP73826-4.2VCHCT-ND
footprint SOT23-6_MCP73826 (SOT23, 6-Leads, Body 2.90x2.80mm, Pitch 0.95mm, IPC Medium Density)
pins: 1 SHDN_N, 2 GND, 3 VBAT, 4 VDRV, 5 VIN, 6 VSNS

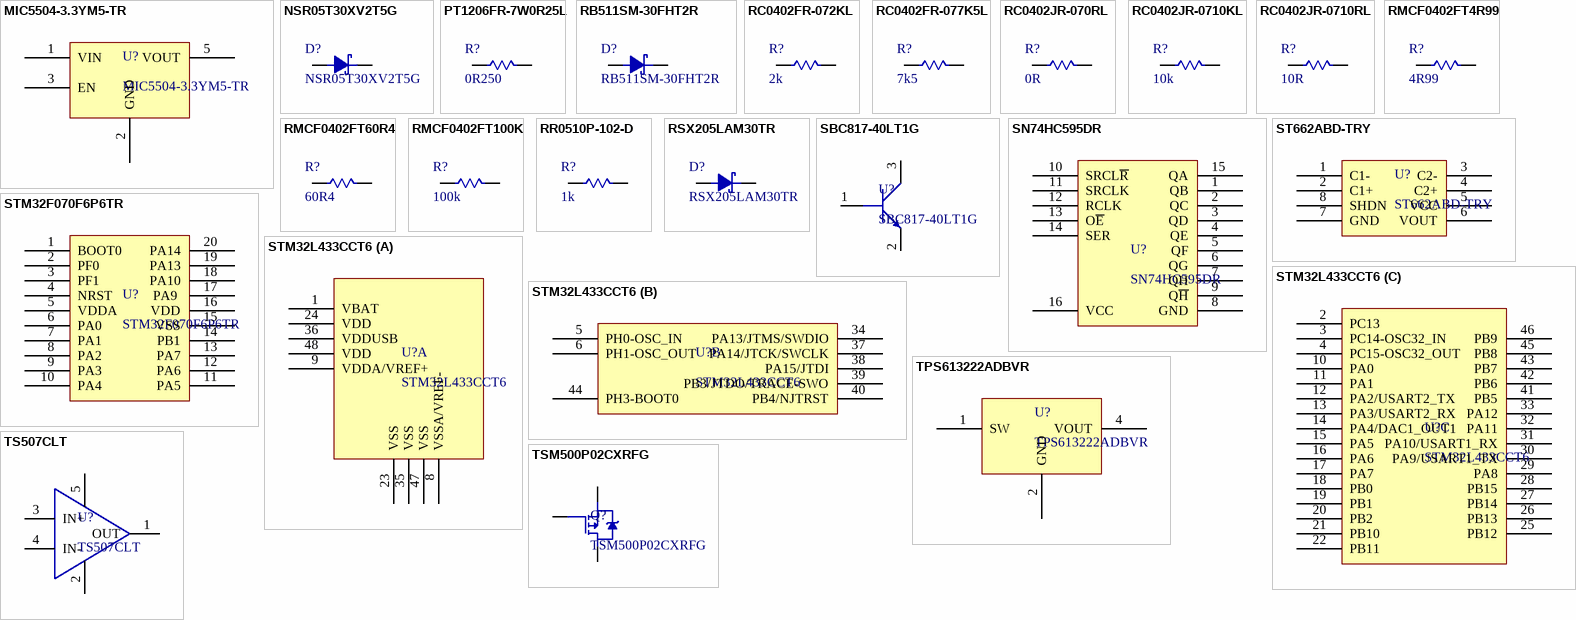
[diagram p1: symbols MIC5504-3.3YM5-TR to TSM500P02CXRFG]

## MIC5504-3.3YM5-TR
designator U?
IC LDO 3V3 300mA 5V INPUT; Manufacturer: Microchip Micrel; Min Input Voltage: 2.5V; Max Input Voltage: 5.5V; Nominal Output Voltage: 3.3V; Dropout Voltage: 380mV; Output Type: Fixed; Number of Outputs: 1; Quiescent Current: 38uA; Accuracy: 3%; Operating Supply Current: 42uA; Power Supply Rejection Ratio (PSRR): 60dB; Supplier 1: Digi-Key; Manufacturer Part Number: MIC5504-3.3YM5-TR; Stock 1: 30791; Pricing 1: 1=0.11, 25=0.0928, 100=0.0824 (USD); Mount: Surface Mount; Case/Package: SOT-23-5; Number of Pins: 5; Min Operating Temperature: -40°C; Max Operating Temperature: 125°C; Output Current: 300mA; Packaging: Tape and Reel; Output Voltage: 3.3V; Max Output Current: 300mA; Length: 2.9mm; Height: 1.1mm; Width: 1.6mm; REACH SVHC: No SVHC; ComponentLink1URL: http://www.farnell.com/datasheets/1856860.pdf?src-supplier=Element14; ComponentLink1Description: http://www.farnell.com/datasheets/1856860.pdf?src-supplier=Element14; Supplier Part Number 1: 576-4764-1-ND
footprint SOT23-5_MIC5504 (SOT23, 5-Leads, Body 2.90x2.80mm, Pitch 0.95mm, IPC Medium Density)
pins: 1 VIN, 2 GND, 3 EN, 5 VOUT

## NSR05T30XV2T5G
designator D?
DIODE SCHOTTKY 30V 500MA SOD523; Manufacturer: ON Semiconductor; Reverse Recovery Time: 23ns; Supplier 1: Digi-Key; Manufacturer Part Number: NSR05T30XV2T5G; Stock 1: 10419; Pricing 1: 1=0.32, 10=0.266, 100=0.1409, 500=0.0927, 1000=0.063 (USD); Mount: Surface Mount; Packaging: Cut Tape; Max Reverse Voltage (DC): 30V; Average Rectified Current: 500mA; Supplier Part Number 1: NSR05T30XV2T5GOSCT-ND
footprint SOD-523 (SODFL, 2-Leads, Body 0.80x1.60mm, IPC Medium Density)
pins: 1, 2

## PT1206FR-7W0R25L
designator R?, comment 0R250
RES SMD 250mOhm 0.5W 1206; Manufacturer: Yageo; Manufacturer Part Number: PT1206FR-7W0R25L; Resistance: 250mR; Tolerance: 1%; Max Power Dissipation: 500mW; Temperature Coefficient: 75ppm/°C; Supplier 1: Digi-Key; Stock 1: 13947; Pricing 1: 1=0.47, 10=0.364, 25=0.2768, 50=0.2056, 100=0.1528, 250=0.1291, 500=0.1107, 1000=0.0843 (USD); Case/Package: 1206; Min Operating Temperature: -55°C; Max Operating Temperature: 155°C; Packaging: Tape and Reel; Composition: Thick Film; Number of Terminations: 2; Features: Moisture Resistant,Automotive AEC-Q200; Length: 0.122inch; Height: 0.026inch; Width: 0.063inch; Supplier Part Number 1: YAG5802CT-ND
footprint R1206 (Chip Resistor, 2-Leads, Body 3.10x1.60mm, IPC Medium Density)
pins: 1, 2

## RB511SM-30FHT2R
designator D?
DIODE SCHOTTKY 370mV Forward Voltage @ 10mA, 30V Reverse Voltage RB511SM-30FHT2R             Schottky Rectifier, 30 V, 100 mA, Single, SOD-523, 2 Pins, 370 mV                          New; Manufacturer: Rohm; Forward Current: 100mA; Max Forward Surge Current (Ifsm): 500mA; Supplier 1: Digi-Key; Manufacturer Part Number: RB511SM-30FHT2R; Stock 1: 6514; Pricing 1: 1=0.17, 10=0.16, 100=0.0869, 500=0.0535, 1000=0.0365, 2500=0.031 (USD); Number of Pins: 2; Max Operating Temperature: 125°C; Max Repetitive Reverse Voltage (Vrrm): 30V; Forward Voltage: 370mV; Packaging: Cut Tape; Element Configuration: Single; REACH SVHC: No SVHC; Supplier Part Number 1: RB511SM-30FHT2RCT-ND
footprint SOD-523 (SODFL, 2-Leads, Body 0.80x1.60mm, IPC Medium Density)
pins: 1, 2

## RC0402FR-072KL
designator R?, comment 2k
RES SMD 2K OHM 1% 1/16W 0402; Manufacturer: Yageo; Manufacturer Part Number: RC0402FR-072KL; Resistance: 2kR; Power Rating: 63mW; Voltage Rating: 50V; Temperature Coefficient: 100ppm/°C; Supplier 1: Digi-Key; Stock 1: 12787794; Pricing 1: 1=0.1, 10=0.016, 100=0.0067, 1000=0.003, 2500=0.0026, 5000=0.0022 (USD); Case/Package: 0402; Case Code (Metric): 1005; Case Code (Imperial): 0402; Min Operating Temperature: -55°C; Max Operating Temperature: 155°C; Tolerance: 1%; Package Quantity: 1; Packaging: Tape and Reel; Composition: Thick Film; Number of Terminations: 2; Termination: SMD/SMT; Military Standard: Not; Max Power Dissipation: 63mW; Voltage Rating (DC): 50V; Working Voltage: 50V; Features: Moisture Resistant; Length: 1mm; Height: 0.016inch; Width: 0.02inch; Depth: 0.5mm; REACH SVHC: Unknown; Lead Free: Lead Free; ComponentLink1URL: http://www.yageo.com/documents/recent/PYu-RC_Group_51_RoHS_L_10.pdf?src-supplier=Digi-Key; ComponentLink1Description: http://www.yageo.com/documents/recent/PYu-RC_Group_51_RoHS_L_10.pdf?src-supplier=Digi-Key; ComponentLink2URL: http://documents.rs-components.com/techlib://itc_doclist_GB.htm?stockno=6186510&src-supplier=RSComponents; ComponentLink2Description: http://documents.rs-components.com/techlib://itc_doclist_GB.htm?stockno=6186510&src-supplier=RSComponents; ComponentLink3URL: https://www.verical.com/server-webapp/html/getDatasheet?partID=358921&src-supplier=Verical; ComponentLink3Description: https://www.verical.com/server-webapp/html/getDatasheet?partID=358921&src-supplier=Verical; ComponentLink4URL: http://www.mouser.com/ds/2/447/PYu-RC0402_51_RoHS_L_6_r-8721.pdf?src-supplier=Mouser; ComponentLink4Description: http://www.mouser.com/ds/2/447/PYu-RC0402_51_RoHS_L_6_r-8721.pdf?src-supplier=Mouser; ComponentLink5URL: http://www.farnell.com/datasheets/1018594.pdf?src-supplier=Element14; ComponentLink5Description: http://www.farnell.com/datasheets/1018594.pdf?src-supplier=Element14; ComponentLink6URL: http://www.farnell.com/datasheets/2167052.pdf?src-supplier=Element14; ComponentLink6Description: http://www.farnell.com/datasheets/2167052.pdf?src-supplier=Element14; Supplier Part Number 1: 311-2KLRCT-ND
footprint R0402 (Chip Resistor, 2-Leads, Body 1.00x0.50mm, IPC Medium Density)
pins: 1, 2